# Altium footprint library ir.PCBLIB: 5 footprints
Each footprint in its own frame and in the unit in brackets; x right, y up, seen from the top. Pads: shape width x height; smd on the part's side, far side on the other; paste and mask are expansions set on the pad; w line width, h text height; cw(c..) or ccw(c..) is an arc to the next point about the centre after c.
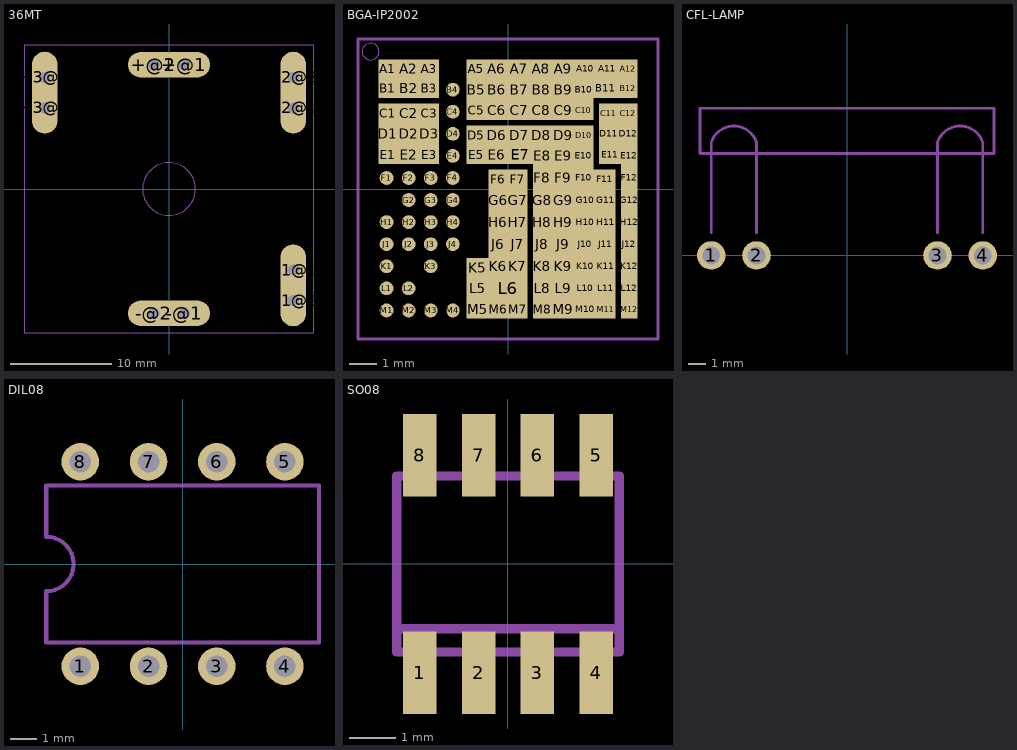
[diagram p0: the footprints below, top view; thin cyan lines are the x and y axes]

## 36MT [mm]
pads (10):
  oval 5.08x2.54 hole 1.1: +@1(1.5,12.25) +@2(-1.5,12.25) -@1(1.5,-12.25) -@2(-1.5,-12.25)
  oval 2.54x5.08 hole 1.1: ~1@1(12.25,-8) ~1@2(12.25,-11) ~2@1(12.25,8) ~2@2(12.25,11) ~3@1(-12.25,8) ~3@2(-12.25,11)
Mechanical 2:
  circle w0.102: c0,0 r2.6
  lines w0.102: -14.2,-14.2 14.2,-14.2 14.2,14.2 -14.2,14.2 -14.2,-14.2
Mechanical 13:
  lines w0: -12.8,6.5 -12.8,12.5 cw(c-12.3,12.5) -12.3,13 -12.2,13 cw(c-12.2,12.5) -11.7,12.5 -11.7,6.5 cw(c-12.2,6.5) -12.2,6 -12.3,6 cw(c-12.3,6.5) -12.8,6.5 ; -3.5,-12.3 ccw(c-3,-12.3) -3,-12.8 3,-12.8 ccw(c3,-12.3) 3.5,-12.3 3.5,-12.2 ccw(c3,-12.2) 3,-11.7 -3,-11.7 ccw(c-3,-12.2) -3.5,-12.2 -3.5,-12.3 ; -3.5,12.2 ccw(c-3,12.2) -3,11.7 3,11.7 ccw(c3,12.2) 3.5,12.2 3.5,12.3 ccw(c3,12.3) 3,12.8 -3,12.8 ccw(c-3,12.3) -3.5,12.3 -3.5,12.2 ; 11.7,-12.5 11.7,-6.5 cw(c12.2,-6.5) 12.2,-6 12.3,-6 cw(c12.3,-6.5) 12.8,-6.5 12.8,-12.5 cw(c12.3,-12.5) 12.3,-13 12.2,-13 cw(c12.2,-12.5) 11.7,-12.5 ; 11.7,6.5 11.7,12.5 cw(c12.2,12.5) 12.2,13 12.3,13 cw(c12.3,12.5) 12.8,12.5 12.8,6.5 cw(c12.3,6.5) 12.3,6 12.2,6 cw(c12.2,6.5) 11.7,6.5

## BGA-IP2002 [mil]
pads (133):
  rect 27.56x27.56 smd paste-13.78 mask-13.78: A1(-171.26,171.26) A3(-112.2,171.26) A5(-45.28,171.26) A12(171.26,171.26) B1(-171.26,143.7) B3(-112.2,143.7) B12(171.26,143.7) C1(-171.26,108.27) C3(-112.2,108.27) C5(-45.28,112.2) C10(108.27,112.2) C11(143.7,108.27) C12(171.26,108.27) D5(-45.28,76.77) D10(108.27,76.77) E1(-171.26,49.21) E3(-112.2,49.21) E5(-45.28,49.21) F6(-13.78,13.78) F7(13.78,13.78) M6(-13.78,-171.26) M7(13.78,-171.26) M8(49.21,-171.26) M11(139.76,-171.26)
  rect 31.5x27.56 smd paste-15.75 mask-15.75: A2(-141.73,171.26) A6(-15.75,171.26) A7(15.75,171.26) A8(47.24,171.26) A9(78.74,171.26) A10(110.24,171.26) A11(141.73,171.26) B2(-141.73,143.7) C2(-141.73,108.27) C6(-15.75,112.2) C7(15.75,112.2) C8(47.24,112.2) C9(78.74,112.2) D6(-15.75,76.77) D7(15.75,76.77) D8(47.24,76.77) D9(78.74,76.77) E2(-141.73,49.21) E6(-15.75,49.21) E11(145.67,49.21) F11(137.8,13.78) K5(-43.31,-112.2) M5(-43.31,-171.26) M9(78.74,-171.26) M10(110.24,-171.26)
  rrect100% 19.69x19.69 smd paste-9.85 mask-9.85: B4(-78.74,141.73) C4(-78.74,110.24) D4(-78.74,78.74) E4(-78.74,47.24) F1(-173.23,15.75) F2(-141.73,15.75) F3(-110.24,15.75) F4(-78.74,15.75) G2(-141.73,-15.75) G3(-110.24,-15.75) G4(-78.74,-15.75) H1(-173.23,-47.24) H2(-141.73,-47.24) H3(-110.24,-47.24) H4(-78.74,-47.24) J1(-173.23,-78.74) J2(-141.73,-78.74) J3(-110.24,-78.74) J4(-78.74,-78.74) K1(-173.23,-110.24) K3(-110.24,-110.24) L1(-173.23,-141.73) L2(-141.73,-141.73) M1(-173.23,-173.23) M2(-141.73,-173.23) M3(-110.24,-173.23) M4(-78.74,-173.23)
  rect 27.56x31.5 smd paste-15.75 mask-15.75: B5(-45.28,141.73) B10(108.27,141.73) D1(-171.26,78.74) D3(-112.2,78.74) D11(143.7,78.74) D12(171.26,78.74) E8(49.21,47.24) E10(108.27,47.24) F8(49.21,15.75) F10(108.27,15.75) G6(-13.78,-15.75) G7(13.78,-15.75) G8(49.21,-15.75) G11(139.76,-15.75) H6(-13.78,-47.24) H7(13.78,-47.24) H8(49.21,-47.24) H11(139.76,-47.24) J6(-13.78,-78.74) J7(13.78,-78.74) J8(49.21,-78.74) J11(139.76,-78.74) K6(-13.78,-110.24) K7(13.78,-110.24) K8(49.21,-110.24) K11(139.76,-110.24) L8(49.21,-141.73) L11(139.76,-141.73)
  rect 31.5x31.5 smd paste-15.75 mask-15.75: B6(-15.75,141.73) B7(15.75,141.73) B8(47.24,141.73) B9(78.74,141.73) D2(-141.73,78.74) E9(78.74,47.24) F9(78.74,15.75) G9(78.74,-15.75) G10(110.24,-15.75) H9(78.74,-47.24) H10(110.24,-47.24) J9(78.74,-78.74) J10(110.24,-78.74) K9(78.74,-110.24) K10(110.24,-110.24) L5(-43.31,-141.73) L9(78.74,-141.73) L10(110.24,-141.73)
  rect 35.43x27.56 smd paste-17.71 mask-17.71: B11(139.76,143.7) E7(17.72,49.21)
  rect 23.62x31.5 smd paste-15.75 mask-15.75: E12(173.23,47.24) F12(173.23,15.75) G12(173.23,-15.75) H12(173.23,-47.24) J12(173.23,-78.74) K12(173.23,-110.24) L12(173.23,-141.73)
  rect 55.12x31.5 smd paste-27.56 mask-27.56: L6(0,-141.73)
  rect 23.62x27.56 smd paste-13.78 mask-13.78: M12(173.23,-171.26)
Top Solder:
  circle w0: c-173.23,173.23 r7.87
  circle w0: c-141.73,173.23 r7.87
  circle w0: c-110.24,173.23 r7.87
  circle w0: c-47.24,173.23 r7.87
  circle w0: c-15.75,173.23 r7.87
  circle w0: c15.75,173.23 r7.87
  circle w0: c47.24,173.23 r7.87
  circle w0: c78.74,173.23 r7.87
  circle w0: c110.24,173.23 r7.87
  circle w0: c141.73,173.23 r7.87
  circle w0: c173.23,173.23 r7.87
  circle w0: c-173.23,141.73 r7.87
  circle w0: c-141.73,141.73 r7.87
  circle w0: c-110.24,141.73 r7.87
  circle w0: c-78.74,141.73 r7.87
  circle w0: c-47.24,141.73 r7.87
  circle w0: c-15.75,141.73 r7.87
  circle w0: c15.75,141.73 r7.87
  circle w0: c47.24,141.73 r7.87
  circle w0: c78.74,141.73 r7.87
  circle w0: c110.24,141.73 r7.87
  circle w0: c141.73,141.73 r7.87
  circle w0: c173.23,141.73 r7.87
  circle w0: c-173.23,110.24 r7.87
  circle w0: c-141.73,110.24 r7.87
  circle w0: c-110.24,110.24 r7.87
  circle w0: c-78.74,110.24 r7.87
  circle w0: c-47.24,110.24 r7.87
  circle w0: c-15.75,110.24 r7.87
  circle w0: c15.75,110.24 r7.87
  circle w0: c47.24,110.24 r7.87
  circle w0: c78.74,110.24 r7.87
  circle w0: c110.24,110.24 r7.87
  circle w0: c141.73,110.24 r7.87
  circle w0: c173.23,110.24 r7.87
  circle w0: c-173.23,78.74 r7.87
  circle w0: c-141.73,78.74 r7.87
  circle w0: c-110.24,78.74 r7.87
  circle w0: c-78.74,78.74 r7.87
  circle w0: c-47.24,78.74 r7.87
  circle w0: c-15.75,78.74 r7.87
  circle w0: c15.75,78.74 r7.87
  circle w0: c47.24,78.74 r7.87
  circle w0: c78.74,78.74 r7.87
  circle w0: c110.24,78.74 r7.87
  circle w0: c141.73,78.74 r7.87
  circle w0: c173.23,78.74 r7.87
  circle w0: c-173.23,47.24 r7.87
  circle w0: c-141.73,47.24 r7.87
  circle w0: c-110.24,47.24 r7.87
  circle w0: c-78.74,47.24 r7.87
  circle w0: c-47.24,47.24 r7.87
  circle w0: c-15.75,47.24 r7.87
  circle w0: c15.75,47.24 r7.87
  circle w0: c47.24,47.24 r7.87
  circle w0: c78.74,47.24 r7.87
  circle w0: c110.24,47.24 r7.87
  circle w0: c141.73,47.24 r7.87
  circle w0: c173.23,47.24 r7.87
  circle w0: c-173.23,15.75 r7.87
  circle w0: c-141.73,15.75 r7.87
  circle w0: c-110.24,15.75 r7.87
  circle w0: c-78.74,15.75 r7.87
  circle w0: c-15.75,15.75 r7.87
  circle w0: c15.75,15.75 r7.87
  circle w0: c47.24,15.75 r7.87
  circle w0: c78.74,15.75 r7.87
  circle w0: c110.24,15.75 r7.87
  circle w0: c141.73,15.75 r7.87
  circle w0: c173.23,15.75 r7.87
  circle w0: c-141.73,-15.75 r7.87
  circle w0: c-110.24,-15.75 r7.87
  circle w0: c-78.74,-15.75 r7.87
  circle w0: c-15.75,-15.75 r7.87
  circle w0: c15.75,-15.75 r7.87
  circle w0: c47.24,-15.75 r7.87
  circle w0: c78.74,-15.75 r7.87
  circle w0: c110.24,-15.75 r7.87
  circle w0: c141.73,-15.75 r7.87
  circle w0: c173.23,-15.75 r7.87
  circle w0: c-173.23,-47.24 r7.87
  circle w0: c-141.73,-47.24 r7.87
  circle w0: c-110.24,-47.24 r7.87
  circle w0: c-78.74,-47.24 r7.87
  circle w0: c-15.75,-47.24 r7.87
  circle w0: c15.75,-47.24 r7.87
  circle w0: c47.24,-47.24 r7.87
  circle w0: c78.74,-47.24 r7.87
  circle w0: c110.24,-47.24 r7.87
  circle w0: c141.73,-47.24 r7.87
  circle w0: c173.23,-47.24 r7.87
  circle w0: c-173.23,-78.74 r7.87
  circle w0: c-141.73,-78.74 r7.87
  circle w0: c-110.24,-78.74 r7.87
  circle w0: c-78.74,-78.74 r7.87
  circle w0: c-15.75,-78.74 r7.87
  circle w0: c15.75,-78.74 r7.87
  circle w0: c47.24,-78.74 r7.87
  circle w0: c78.74,-78.74 r7.87
  circle w0: c110.24,-78.74 r7.87
  circle w0: c141.73,-78.74 r7.87
  circle w0: c173.23,-78.74 r7.87
  circle w0: c-173.23,-110.24 r7.87
  circle w0: c-110.24,-110.24 r7.87
  circle w0: c-47.24,-110.24 r7.87
  circle w0: c-15.75,-110.24 r7.87
  circle w0: c15.75,-110.24 r7.87
  circle w0: c47.24,-110.24 r7.87
  circle w0: c78.74,-110.24 r7.87
  circle w0: c110.24,-110.24 r7.87
  circle w0: c141.73,-110.24 r7.87
  circle w0: c173.23,-110.24 r7.87
  circle w0: c-173.23,-141.73 r7.87
  circle w0: c-141.73,-141.73 r7.87
  circle w0: c-47.24,-141.73 r7.87
  circle w0: c-15.75,-141.73 r7.87
  circle w0: c47.24,-141.73 r7.87
  circle w0: c78.74,-141.73 r7.87
  circle w0: c110.24,-141.73 r7.87
  circle w0: c141.73,-141.73 r7.87
  circle w0: c173.23,-141.73 r7.87
  circle w0: c-173.23,-173.23 r7.87
  circle w0: c-141.73,-173.23 r7.87
  circle w0: c-110.24,-173.23 r7.87
  circle w0: c-78.74,-173.23 r7.87
  circle w0: c-47.24,-173.23 r7.87
  circle w0: c-15.75,-173.23 r7.87
  circle w0: c15.75,-173.23 r7.87
  circle w0: c47.24,-173.23 r7.87
  circle w0: c78.74,-173.23 r7.87
  circle w0: c110.24,-173.23 r7.87
  circle w0: c141.73,-173.23 r7.87
  circle w0: c173.23,-173.23 r7.87
Mechanical 2:
  circle w0: c-196,196 r12
  lines w4: -214,-214 214,-214 214,214 -214,214 -214,-214

## CFL-LAMP [mm]
pads (4):
  round 1.6 hole 1: 1(-7.62,0) 2(-5.08,0) 3(5.08,0) 4(7.62,0)
Mechanical 2:
  lines w0.152: -7.62,1.27 -7.62,6.35 cw(c-6.35,5.927) -5.08,6.35 -5.08,1.27 ; 5.08,1.27 5.08,6.35 cw(c6.35,5.927) 7.62,6.35 7.62,1.27 ; -8.255,5.715 8.255,5.715 8.255,8.255 -8.255,8.255 -8.255,5.715

## DIL08 [mil]
pads (8):
  round 55.12 hole 31.5: 1(-150,-150) 2(-50,-150) 3(50,-150) 4(150,-150) 5(150,150) 6(50,150) 7(-50,150) 8(-150,150)
Mechanical 2:
  lines w6: -200,-115 200,-115 200,115 -200,115 -200,40 cw(c-200,0) -200,-40 -200,-115

## SO08 [mm]
pads (8):
  rect 0.72x1.78 smd: 1(-1.905,-2.35) 2(-0.635,-2.35) 3(0.635,-2.35) 4(1.905,-2.35) 5(1.905,2.35) 6(0.635,2.35) 7(-0.635,2.35) 8(-1.905,2.35)
Mechanical 18:
  rectangle: -2.15,-3.1 -1.66,-2
  rectangle: -0.88,-3.1 -0.39,-2
  rectangle: 0.39,-3.1 0.88,-2
  rectangle: 1.66,-3.1 2.15,-2
  rectangle: 1.66,2 2.15,3.1
  rectangle: 0.39,2 0.88,3.1
  rectangle: -0.88,2 -0.39,3.1
  rectangle: -2.15,2 -1.66,3.1
  lines w0.203: -2.4,-1.4 -2.4,-1.9 2.4,-1.9 2.4,-1.4 ; -2.4,-1.4 -2.4,1.9 2.4,1.9 2.4,-1.4 ; -2.4,-1.4 2.4,-1.4